# EAGLE library part MC100EP14DTG (library ON Semiconductor_By_element14_Batch_1)
Differential ECL/PECL/HSTL Clock Driver
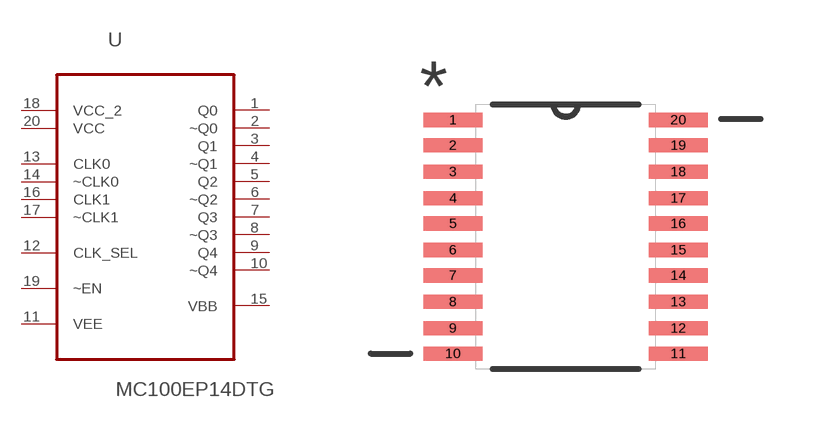
[diagram p104: symbol with the pads of SOP65P640X120-20N; footprint SOP65P640X120-20N]

Designator prefix U

## MC100EP14DTG (MPN: MC100EP14DTG; OC_FARNELL: 1607918; OC_NEWARK: 71J5407; PACKAGE: TSSOP-20; SUPPLIER: ON SEMICONDUCTOR)  [SOP65P640X120-20N]
1  Q0  out
2  ~Q0  out
3  Q1  out
4  ~Q1  out
5  Q2  out
6  ~Q2  out
7  Q3  out
8  ~Q3  out
9  Q4  out
10  ~Q4  out
11  VEE  pwr
12  CLK_SEL  in
13  CLK0  in
14  ~CLK0  in
15  VBB  out
16  CLK1  in
17  ~CLK1  in
18  VCC_2  pwr
19  ~EN  in
20  VCC  pwr

## Footprint SOP65P640X120-20N (pad centres in mm)
smd 1.473 x 0.356: 1 -2.819,2.921; 2 -2.819,2.286; 3 -2.819,1.626; 4 -2.819,0.965; 5 -2.819,0.33; 6 -2.819,-0.33; 7 -2.819,-0.965; 8 -2.819,-1.626; 9 -2.819,-2.286; 10 -2.819,-2.921; 11 2.819,-2.921; 12 2.819,-2.286; 13 2.819,-1.626; 14 2.819,-0.965; 15 2.819,-0.33; 16 2.819,0.33; 17 2.819,0.965; 18 2.819,1.626; 19 2.819,2.286; 20 2.819,2.921